# Altium schematic symbol library NCV8114.SchLib: 1 symbol
Pins are listed as number, name and electrical type; pins without a type are passive.

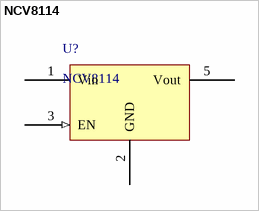
[diagram p0: symbol NCV8114]

## NCV8114
designator U?
pins: 1 Vin (power), 2 GND, 3 EN (in), 5 Vout (power)